# EAGLE library part IS61WV1288EEBLL (library lichtenstein_onion)
128K x 8 HIGH SPEED ASYNCHRONOUS CMOS STATIC RAM WITH ECC TSSOPII-32 Footprint Proven Datasheet <https://www.mouser.com/datasheet/2/198/61-64WV1288EEBLL-337356.pdf>
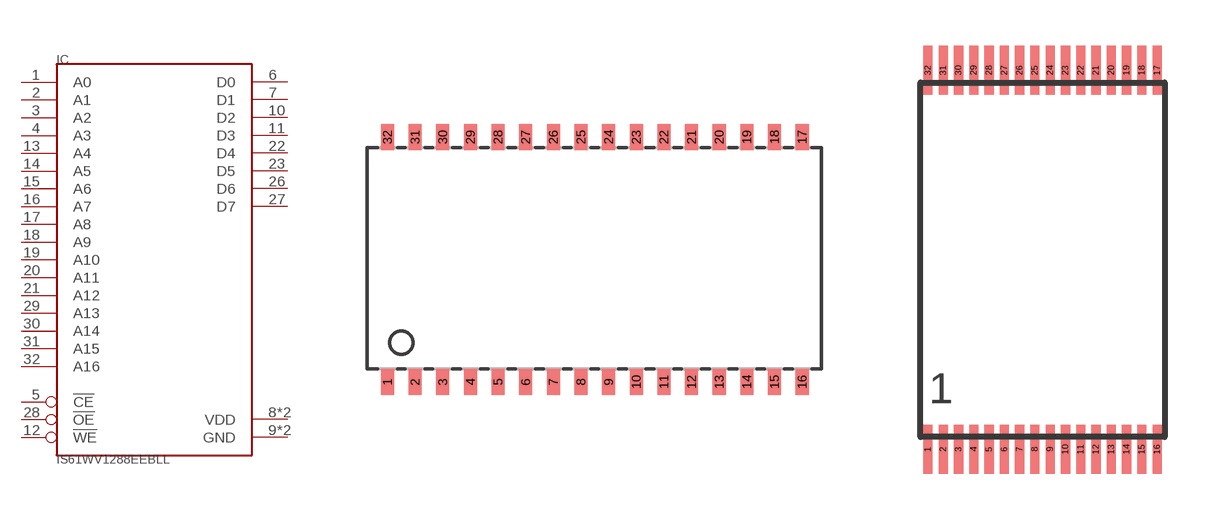
[diagram p6: symbol with the pads of TSOPII-32; footprints TSOPII-32, TSOP8X16]

Designator prefix IC

## IS61WV1288EEBLLTSOP32-II  [TSOPII-32]
1  A0  in
2  A1  in
3  A2  in
4  A3  in
5  !CE  in
6  D0
7  D1
8  VDD  pwr
9  GND  pwr
10  D2
11  D3
12  !WE  in
13  A4  in
14  A5  in
15  A6  in
16  A7  in
17  A8  in
18  A9  in
19  A10  in
20  A11  in
21  A12  in
22  D4
23  D5
24  VDD  pwr
25  GND  pwr
26  D6
27  D7
28  !OE  in
29  A13  in
30  A14  in
31  A15  in
32  A16  in

## IS61WV1288EEBLLTSOP32-I  [TSOP8X16]
Pads as for TSOPII-32

## Footprint TSOPII-32 (pad centres in mm)
32-pin TSOP II (51-85095) Source: Cypress CYP05780611.pdf
smd 0.6 x 1.2: 1 -9.525,-5.627; 2 -8.255,-5.627; 3 -6.985,-5.627; 4 -5.715,-5.627; 5 -4.445,-5.627; 6 -3.175,-5.627; 7 -1.905,-5.627; 8 -0.635,-5.627; 9 0.635,-5.627; 10 1.905,-5.627; 11 3.175,-5.627; 12 4.445,-5.627; 13 5.715,-5.627; 14 6.985,-5.627; 15 8.255,-5.627; 16 9.525,-5.627; 17 9.525,5.629; 18 8.255,5.629; 19 6.985,5.629; 20 5.715,5.629; 21 4.445,5.629; 22 3.175,5.629; 23 1.905,5.629; 24 0.635,5.629; 25 -0.635,5.629; 26 -1.905,5.629; 27 -3.175,5.629; 28 -4.445,5.629; 29 -5.715,5.629; 30 -6.985,5.629; 31 -8.255,5.629; 32 -9.525,5.629

## Footprint TSOP8X16 (pad centres in mm)
TSOP32 thin small outline package
smd 0.3 x 1.6: 1 -3.75,-6.204; 2 -3.25,-6.204; 3 -2.75,-6.204; 4 -2.25,-6.204; 5 -1.75,-6.204; 6 -1.25,-6.204; 7 -0.75,-6.204; 8 -0.25,-6.204; 9 0.25,-6.204; 10 0.75,-6.204; 11 1.25,-6.204; 12 1.75,-6.204; 13 2.25,-6.204; 14 2.75,-6.204; 15 3.25,-6.204; 16 3.75,-6.204; 17 3.75,6.204; 18 3.25,6.204; 19 2.75,6.204; 20 2.25,6.204; 21 1.75,6.204; 22 1.25,6.204; 23 0.75,6.204; 24 0.25,6.204; 25 -0.25,6.204; 26 -0.75,6.204; 27 -1.25,6.204; 28 -1.75,6.204; 29 -2.25,6.204; 30 -2.75,6.204; 31 -3.25,6.204; 32 -3.75,6.204